# EAGLE library part 662006230822 (library Wuerth_Elektronik_eiCan_08_Micro_Power_Connectors)
WR-MPC3 3.00mm Male Dual Row SMT Angled Header Through Hole Retention Clip, 6 Pins
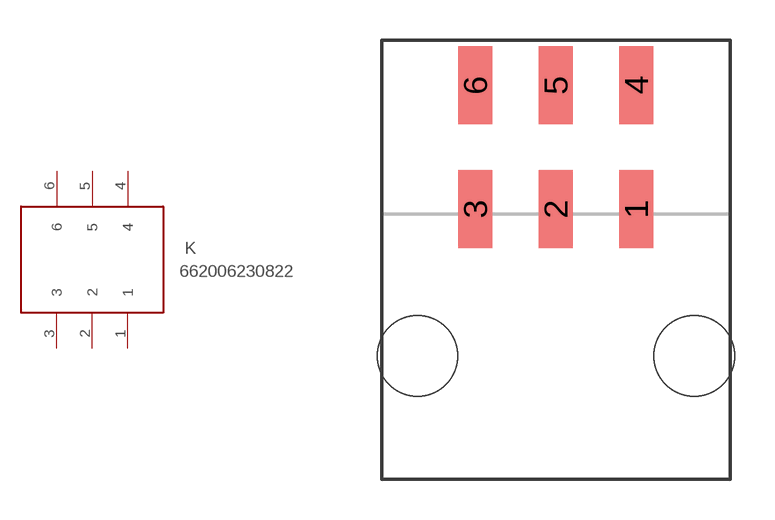
[diagram p50: symbol with the pads of 662006230822; footprint 662006230822]

Designator prefix K

## 662006230822  [662006230822]
1  1
2  2
3  3
4  4
5  5
6  6

## Footprint 662006230822 (pad centres in mm)
WR-MPC3 3.00mm Male Dual Row SMT Angled Header Through Hole Retention Clip, 6 Pins
smd 1.27 x 2.92: 1 0,-2.31; 2 -3,-2.31; 3 -6,-2.31; 4 0,2.31; 5 -3,2.31; 6 -6,2.31
hole 3 at 2.16,-7.79
hole 3 at -8.16,-7.79